# Altium footprint library PcbLib1.PcbLib: 15 footprints
Each footprint in its own frame and in the unit in brackets; x right, y up, seen from the top. Pads: shape width x height; smd on the part's side, far side on the other; paste and mask are expansions set on the pad; w line width, h text height; cw(c..) or ccw(c..) is an arc to the next point about the centre after c.
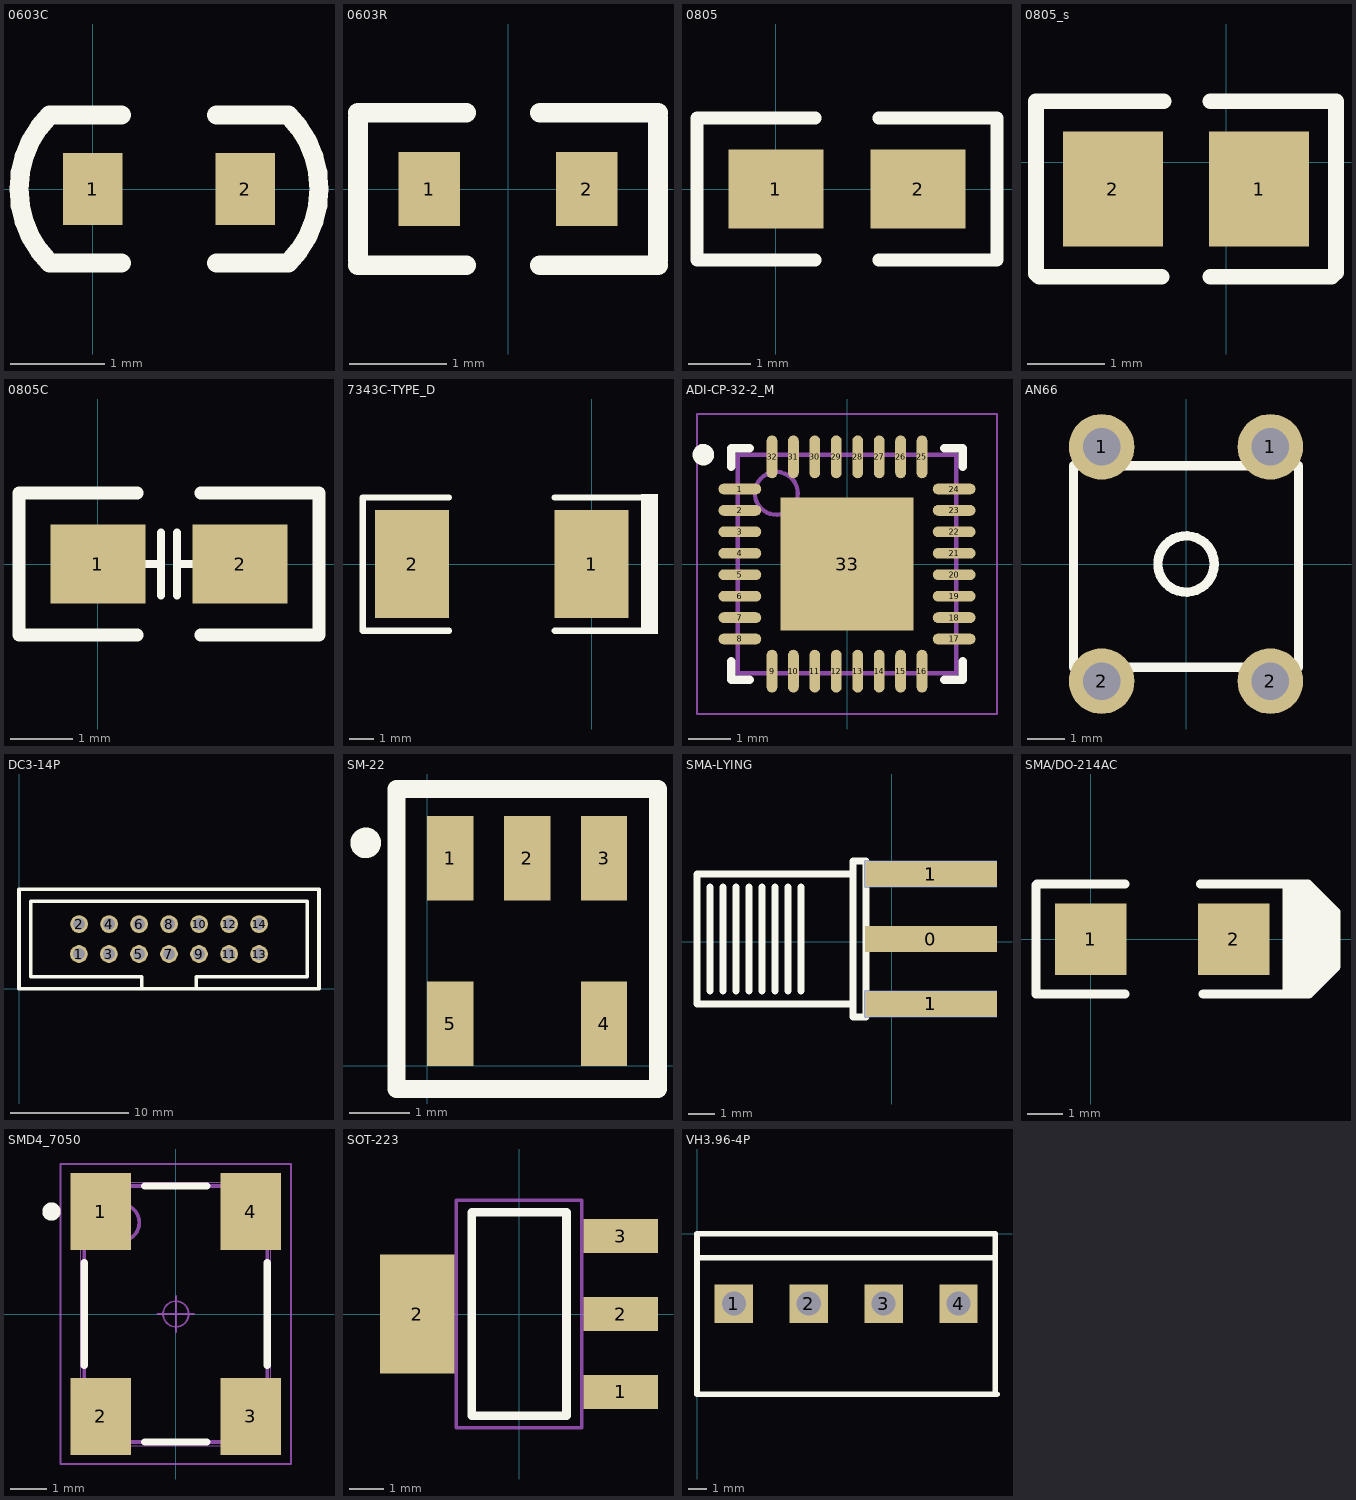
[diagram p0: the footprints below, top view; thin cyan lines are the x and y axes]

## 0603C [mil]
pads (2):
  rect 25x30 smd: 1(0,0) 2(64,0)
Top Overlay:
  lines w8: 12,-31 -18,-31 cw(c13,0) -18,31 12,31 ; 52,-31 82,-31 ccw(c51,0) 82,31 52,31

## 0603R [mil]
pads (2):
  rect 25x30 smd: 1(-32,0) 2(32,0)
Top Overlay:
  lines w8: -61,-31 -17,-31 ; -61,-29 -61,29 ; -61,31 -17,31 ; 13,-31 61,-31 ; 13,31 61,31 ; 61,-29 61,29

## 0805 [mil]
pads (2):
  rect 60x50 smd: 1(0,0) 2(90,0)
Top Overlay:
  lines w8: 25,-45 -50,-45 -50,45 25,45 ; 65,-45 140,-45 140,45 65,45

## 0805_s [mm]
pads (2):
  rect 1.3x1.499 smd: 1(0.425,-0.35) 2(-1.475,-0.35)
Top Overlay:
  lines w0.203: -0.84,-1.493 -2.432,-1.493 -2.475,-1.45 -2.475,0.793 -0.818,0.793 ; -0.21,-1.493 1.368,-1.493 1.425,-1.436 1.425,0.793 -0.21,0.793

## 0805C [mil]
pads (2):
  rect 60x50 smd: 1(0,0) 2(90,0)
Top Overlay:
  lines w5: 30,0 40,0 ; 40,-20 40,20 ; 50,-20 50,20 ; 50,0 60,0
  lines w8: 25,-45 -50,-45 -50,45 25,45 ; 65,-45 140,-45 140,45 65,45

## 7343C-TYPE_D [mm]
pads (2):
  rect 3x4.4 smd: 1(0,0) 2(-7.3,0)
Top Overlay:
  rectangle: 2.008,-2.835 2.7,2.845
  lines w0.254: -5.8,-2.708 -9.308,-2.708 -9.308,2.708 -5.8,2.708 ; -1.5,-2.708 2.008,-2.708 ; -1.5,2.708 2.008,2.708

## ADI-CP-32-2_M [mm] "QFN, 32-Leads, Body 5x5mm, Pitch 0.5mm, Thermal Pad 3.1x3.1mm, IPC Low Density"
height 1
pads (33):
  oval 1x0.25 smd: 1(-2.5,1.75) 2(-2.5,1.25) 3(-2.5,0.75) 4(-2.5,0.25) 5(-2.5,-0.25) 6(-2.5,-0.75) 7(-2.5,-1.25) 8(-2.5,-1.75) 17(2.5,-1.75) 18(2.5,-1.25) 19(2.5,-0.75) 20(2.5,-0.25) 21(2.5,0.25) 22(2.5,0.75) 23(2.5,1.25) 24(2.5,1.75)
  oval 0.25x1 smd: 9(-1.75,-2.5) 10(-1.25,-2.5) 11(-0.75,-2.5) 12(-0.25,-2.5) 13(0.25,-2.5) 14(0.75,-2.5) 15(1.25,-2.5) 16(1.75,-2.5) 25(1.75,2.5) 26(1.25,2.5) 27(0.75,2.5) 28(0.25,2.5) 29(-0.25,2.5) 30(-0.75,2.5) 31(-1.25,2.5) 32(-1.75,2.5)
  rect 3.1x3.1 smd: 33(0,0)
Top Overlay:
  circle w0.25: c-3.35,2.55 r0.125
  lines w0.2: -2.7,-2.275 -2.7,-2.7 -2.275,-2.7 ; -2.7,2.275 -2.7,2.7 -2.275,2.7 ; 2.275,-2.7 2.7,-2.7 2.7,-2.275 ; 2.275,2.7 2.7,2.7 2.7,2.275
Mechanical 13:
  circle w0.1: c-1.65,1.65 r0.5
  lines w0.1: -2.55,-2.55 -2.55,2.55 2.55,2.55 2.55,-2.55 -2.55,-2.55
Mechanical 15:
  lines w0.05: -3.5,-3.5 -3.5,3.5 3.5,3.5 3.5,-3.5 -3.5,-3.5
3D body: height 1, standoff 0, extent -2.55,-2.55 2.55,2.55

## AN66 [mil]
pads (4):
  round 70 hole 40: 1(-90,125) 1(90,125) 2(-90,-125) 2(90,-125)
Top Overlay:
  circle w10: c0,0 r30
  lines w10: -120,-110 -120,105 120,105 120,-110 -120,-110

## DC3-14P [mm]
pads (14):
  round 1.5 hole 1: 1(5.07,2.93) 2(5.08,5.461) 3(7.61,2.93) 4(7.618,5.461) 5(10.15,2.93) 6(10.157,5.461) 7(12.69,2.93) 8(12.695,5.461) 9(15.23,2.93) 10(15.233,5.461) 11(17.77,2.93) 12(17.772,5.461) 13(20.31,2.93) 14(20.31,5.461)
Top Overlay:
  lines w0.3: 10.4,0.014 10.4,1 1,1 1,7.4 24.38,7.4 ; 15,0.014 15,1 24.38,1 24.38,7.311 ; 25.255,8.4 25.38,8.275 25.38,0 0,0 0,8.4 25.38,8.4

## SM-22 [mil]
pads (5):
  rect 30x55 smd: 1(15,135) 2(65,135) 3(115,135) 4(115,27.5) 5(15,27.5)
Top Overlay:
  circle w10: c-40,145 r5
  lines w11.81: -20,-15 150,-15 150,180 -20,180 -20,-15

## SMA-LYING [mm]
height 8.2
pads (5):
  rect 5.08x1.016 smd: 0(1.5,0.1) 1(1.5,-2.4) 1(1.5,2.6)
  rect 5.08x1.016 smd far side: 1(1.5,-2.4) 1(1.5,2.6)
Top Overlay:
  lines w0.254: -7,-1.9 -7,2.1 ; -6.5,-1.9 -6.5,2.1 ; -6,-1.9 -6,2.1 ; -5.5,-1.9 -5.5,2.1 ; -5,-1.9 -5,2.1 ; -4.5,-1.9 -4.5,2.1 ; -4,-1.9 -4,-1.4 -4,2.1 ; -3.5,-1.9 -3.5,2.1 ; -1.5,-2.4 -7.5,-2.4 -7.5,2.6 -1.5,2.6 ; -1.5,-2.9 -1,-2.9 -1,-2.4 -1,3.1 -1.5,3.1 -1.5,-2.9

## SMA/DO-214AC [mm]
pads (2):
  rect 2x2 smd: 1(0,0) 2(4,0)
Top Overlay:
  rectangle: 6.35,-0.762 6.858,-0.381
  rectangle: 6.325,-0.61 6.858,0.762
  rectangle: 6.223,-1.118 6.625,0.995
  rectangle: 5.486,-1.295 6.379,1.241
  rectangle: 5.486,-1.473 6.147,1.524
  lines w0.254: -1.524,1.524 -1.524,-1.524 0.965,-1.524 ; -1.499,1.549 0.965,1.549 ; 3.073,1.549 5.486,1.549 6.02,1.549 6.071,1.549 6.833,0.787 6.858,0.762 6.858,-0.762 6.147,-1.473 6.096,-1.524 5.486,-1.524 ; 3.15,-1.524 5.486,-1.524 ; 5.486,1.524 5.486,-1.524 ; 6.262,1.358 6.262,1.033 6.262,0.825 6.431,0.995 6.498,0.995 6.858,0.635 ; 6.579,-0.838 6.579,-0.61

## SMD4_7050 [mm]
pads (4):
  rect 1.65x2.1 smd: 1(-2.05,2.8) 2(-2.05,-2.8) 3(2.05,-2.8) 4(2.05,2.8)
Top Overlay:
  circle w0.25: c-3.4,2.8 r0.125
  lines w0.2: -2.5,-1.4 -2.5,1.4 ; -0.85,-3.5 0.85,-3.5 ; -0.85,3.5 0.85,3.5 ; 2.5,-1.4 2.5,1.4
Mechanical 15:
  circle w0.1: c-1.5,2.5 r0.5
  lines w0.1: -2.5,-3.5 2.5,-3.5 2.5,3.5 -2.5,3.5 -2.5,-3.5
Mechanical 16:
  circle w0.05: c0,0 r0.35
  lines w0.001: -2.6,-3.6 2.6,-3.6 2.6,3.6 -2.6,3.6 -2.6,-3.6
  lines w0.05: -0.5,0 0.5,0 ; 0,-0.5 0,0.5 ; -3.15,-4.1 3.15,-4.1 3.15,4.1 -3.15,4.1 -3.15,-4.1

## SOT-223 [mm]
pads (4):
  rect 2.2x1 smd: 1(3,-2.3) 2(3,0) 3(3,2.3)
  rect 2.2x3.5 smd: 2(-3,0)
Top Overlay:
  lines w0.254: -1.4,-3 -1.4,3 1.4,3 1.4,-3 -1.4,-3
Mechanical 13:
  lines w0.1: -1.85,-3.35 1.85,-3.35 1.85,3.35 -1.85,3.35 -1.85,-3.35
3D body "TO-223.STEP": height 1.64, standoff -0.04, extent -3.49,-3.242 3.49,3.243

## VH3.96-4P [mm]
pads (4):
  rect 2.032x2.032 hole 1.27: 1(1.95,-3.7) 2(5.91,-3.7) 3(9.87,-3.7) 4(13.83,-3.7)
Top Overlay:
  lines w0.3: 0,-1.27 15.78,-1.27 ; 15.78,-8.414 15.78,0 0,0 0,-8.5 15.866,-8.5